# Altium footprint library ArduinoProMiniPcbLib.PcbLib: 12 footprints
Each footprint in its own frame and in the unit in brackets; x right, y up, seen from the top. Pads: shape width x height; smd on the part's side, far side on the other; paste and mask are expansions set on the pad; w line width, h text height; cw(c..) or ccw(c..) is an arc to the next point about the centre after c.
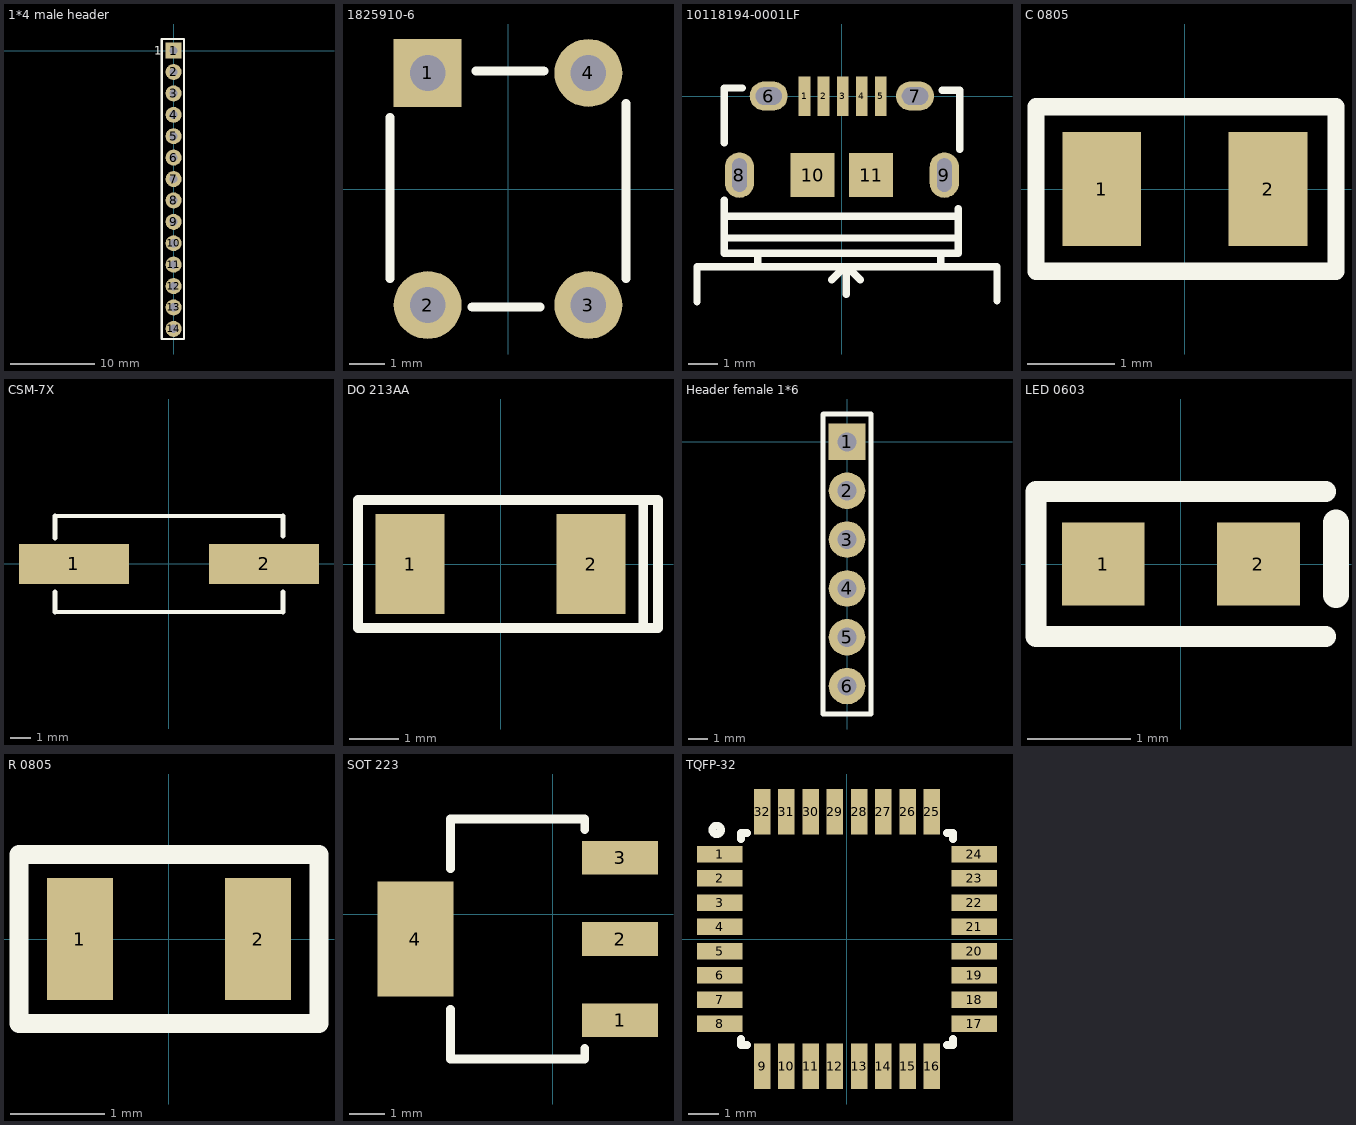
[diagram p0: the footprints below, top view; thin cyan lines are the x and y axes]

## 1*4 male header [mm]
pads (14):
  rect 1.9x1.9 hole 1: 1(0,0)
  round 1.9 hole 1: 2(0,-2.54) 3(0,-5.08) 4(0,-7.62) 5(0,-10.16) 6(0,-12.7) 7(0,-15.24) 8(0,-17.78) 9(0,-20.32) 10(0,-22.86) 11(0,-25.4) 12(0,-27.94) 13(0,-30.48) 14(0,-33.02)
Top Overlay:
  lines w0.254: -1.4,-34.225 -1.4,1.375 1.225,1.375 1.225,-34.225 -1.4,-34.225
  text "1" at -2.3,-0.475 h1
3D body "User Library-2_54mmheader14.STEP": height 7.86, standoff -3.53, extent -1.27,-34.29 1.27,1.27

## 1825910-6 [mm]
pads (4):
  rect 1.9x1.9 hole 1: 1(-2.25,3.25)
  round 1.9 hole 1: 2(-2.25,-3.25) 3(2.25,-3.25) 4(2.25,3.25)
Top Overlay:
  lines w0.254: -3.3,-2.5 -3.3,2 ; -1,-3.3 0.9,-3.3 ; -0.9,3.3 1,3.3 ; 3.3,-2.5 3.3,2.4
3D body "User Library-FSM4JH(1825910-6).step": height 5, standoff -3.51, extent -2.995,-3.998 2.995,3.8

## 10118194-0001LF [mm]
pads (11):
  rect 0.4x1.35 smd mask+0.06: 1(-1.275,0) 2(-0.625,0) 3(0.025,0) 4(0.675,0) 5(1.325,0)
  oval 1.3x1 hole 0.6 slot 0.9 at 0 deg mask+0.06: 6(-2.5,0) 7(2.5,0)
  oval 1x1.55 hole 0.5 slot 1.15 at 90 deg mask+0.06: 8(-3.5,-2.7) 9(3.5,-2.7)
  rect 1.5x1.5 smd mask+0.06: 10(-1,-2.7) 11(1,-2.7)
Top Overlay:
  lines w0.254: -4.95,-7.025 -4.95,-5.825 5.3,-5.825 5.3,-7 ; -4.025,-4.85 -3.5,-4.85 3.95,-4.85 ; -4.025,-3.55 -4.025,-5.375 3.975,-5.375 3.975,-3.85 ; -4.025,-1.6 -4.025,0.275 -3.4,0.275 ; -3.95,-4.1 -3.5,-4.1 3.975,-4.1 ; -2.875,-5.825 -2.875,-5.45 ; -0.35,-6.275 0.075,-5.85 0.125,-5.85 ; 0.1,-5.85 0.175,-5.85 ; 0.15,-6.775 0.15,-5.85 ; 0.625,-6.275 0.2,-5.85 0.15,-5.85 ; 3.375,-5.75 3.375,-5.525 ; 3.425,0.2 4.025,0.2 4.025,-1.825 ; 0.125,-5.85 0.15,-5.85 ; 0.125,-5.85 0.15,-5.85
3D body "10118194c.stp": height 2.77, standoff -0.7, extent -4.025,-5.417 4.025,0.275

## C 0805 [mm]
pads (2):
  rect 0.9x1.3 smd: 1(-0.95,0) 2(0.95,0)
Top Overlay:
  lines w0.2: -1.702,-0.94 1.727,-0.94 1.727,0.94 -1.702,0.94 -1.702,-0.94
3D body "User Library-User Library-0805(2012M) Cap.step": height 1.3, standoff 0.01, extent -1,-0.645 1,0.645

## CSM-7X [mm]
pads (2):
  rect 5.5x2 smd: 1(-4.75,0) 2(4.75,0)
Top Overlay:
  lines w0.2: -5.7,-2.4 5.7,-2.4 ; -5.7,2.4 5.7,2.4
  lines w0.254: -5.7,-2.4 -5.7,-1.4 ; -5.7,1.3 -5.7,2.4 ; 5.7,-2.4 5.7,-1.4 ; 5.7,1.4 5.7,2.4
3D body "User Library-ECS-240-20-5PX-TR.step": height 4.31, standoff 0.01, extent -6.6,-2.4 6.6,2.4

## DO 213AA [mm]
pads (2):
  rect 1.4x2.03 smd: 1(-1.84,0) 2(1.84,0)
Top Overlay:
  lines w0.2: 2.9,-1.3 2.9,1.3 ; -2.9,-1.3 -2.9,1.3 3.2,1.3 3.2,-1.3 -2.9,-1.3
3D body "User Library-MiniMelf-2.step": height 1.6, standoff 0, extent -1.82,-0.8 1.88,0.8

## Header female 1*6 [mm]
pads (6):
  rect 1.9x1.9 hole 1: 1(0,0)
  round 1.9 hole 1: 2(0,-2.54) 3(0,-5.08) 4(0,-7.62) 5(0,-10.16) 6(0,-12.7)
Top Overlay:
  lines w0.254: -1.25,-14.15 -1.25,1.425 -1.225,1.45 1.25,1.45 1.25,-14.15 -1.25,-14.15
3D body "m20-7820646_asm.stp": height 8.31, standoff -3.19, extent -1.25,-14.17 1.25,1.47

## LED 0603 [mm]
pads (2):
  rect 0.8x0.8 smd: 1(-0.75,0) 2(0.75,0)
Top Overlay:
  lines w0.2: 1.4,-0.7 -1.4,-0.7 -1.4,0.7 1.4,0.7
  lines w0.254: 1.5,-0.3 1.5,0.4
3D body "User Library-LED SMD0603.step": height 0.68, standoff 0, extent -0.825,-0.356 0.825,0.369

## PCBComponent_1 [mm]

## R 0805 [mm]
pads (2):
  rect 0.7x1.3 smd: 1(-0.95,0) 2(0.95,0)
Top Overlay:
  lines w0.2: -1.6,-0.9 1.6,-0.9 1.6,0.9 -1.6,0.9 -1.6,-0.9
3D body "User Library-CR2012-0805.step": height 0.61, standoff 0.01, extent -1,-0.625 1,0.625

## SOT 223 [mm]
pads (4):
  rect 2.15x0.95 smd: 1(1.9,-3) 2(1.9,-0.7) 3(1.9,1.6)
  rect 2.15x3.25 smd: 4(-3.9,-0.7)
Top Overlay:
  lines w0.254: -2.9,-2.7 -2.9,-4.1 0.9,-4.1 0.9,-3.8 ; -2.9,1.3 -2.9,2.7 0.9,2.7 0.9,2.4
3D body "User Library-SOT-223-1.step": height 1.66, standoff 0.01, extent -4.7,-3.95 2.3,2.55

## TQFP-32 [mm]
pads (32):
  rect 1.5x0.55 smd mask+0.06: 1(-4.2,2.8) 2(-4.2,2) 3(-4.2,1.2) 4(-4.2,0.4) 5(-4.2,-0.4) 6(-4.2,-1.2) 7(-4.2,-2) 8(-4.2,-2.8) 17(4.2,-2.8) 18(4.2,-2) 19(4.2,-1.2) 20(4.2,-0.4) 21(4.2,0.4) 22(4.2,1.2) 23(4.2,2) 24(4.2,2.8)
  rect 0.55x1.5 smd mask+0.06: 9(-2.8,-4.2) 10(-2,-4.2) 11(-1.2,-4.2) 12(-0.4,-4.2) 13(0.4,-4.2) 14(1.2,-4.2) 15(2,-4.2) 16(2.8,-4.2) 25(2.8,4.2) 26(2,4.2) 27(1.2,4.2) 28(0.4,4.2) 29(-0.4,4.2) 30(-1.2,4.2) 31(-2,4.2) 32(-2.8,4.2)
Top Overlay:
  circle w0.254: c-4.3,3.6 r0.141
  lines w0.254: -3.5,-3.3 -3.5,-3.5 -3.3,-3.5 ; -3.5,3.3 -3.5,3.5 -3.3,3.5 ; 3.3,-3.5 3.5,-3.5 3.5,-3.3 ; 3.3,3.5 3.5,3.5 3.5,3.3
3D body "User Library-TQFP32-1.step": height 1.1, standoff 0, extent -4.508,-4.509 4.509,4.509